# Altium schematic symbol library Schlib.SchLib: 18 symbols
Pins are listed as number, name and electrical type; pins without a type are passive.

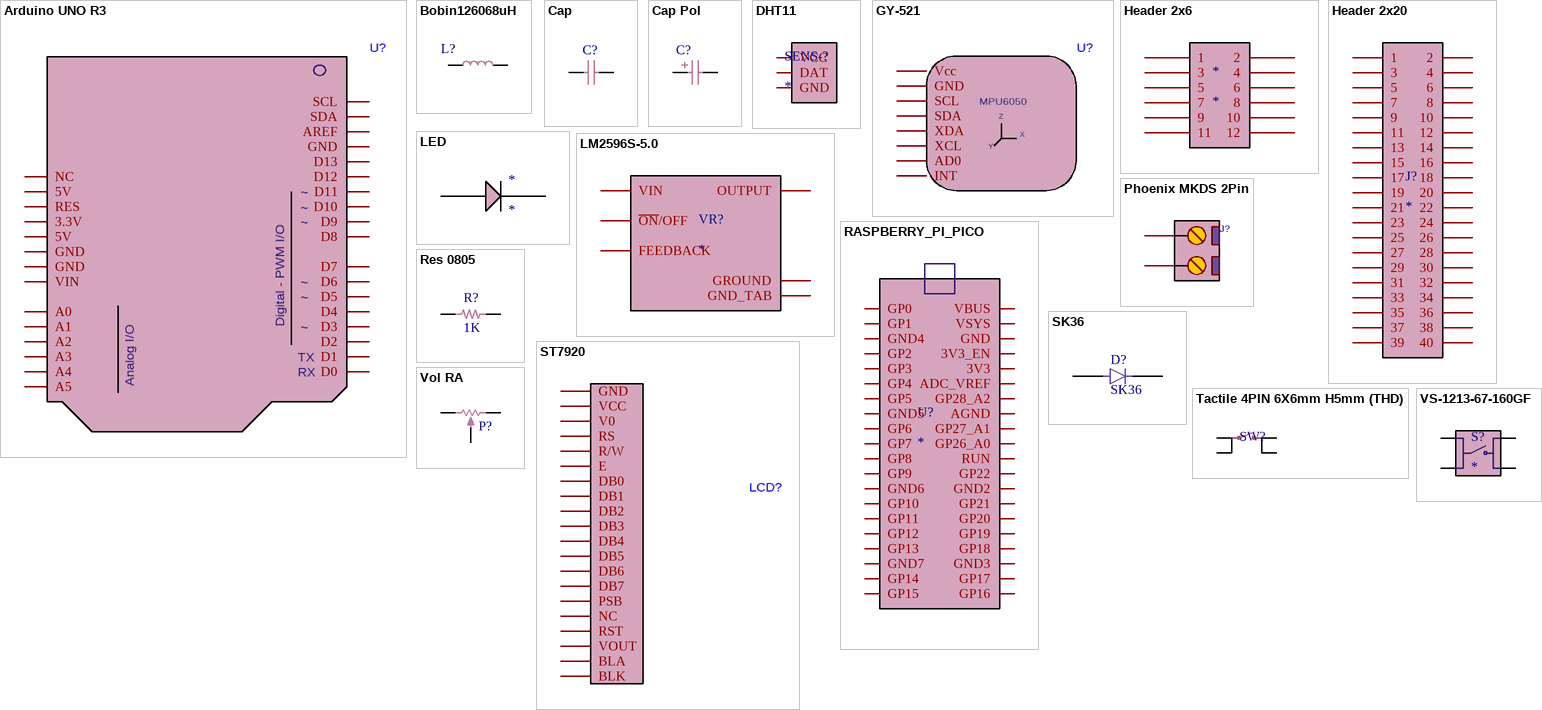
[diagram p0: symbols Arduino UNO R3 to VS-1213-67-160GF]

## Arduino UNO R3
designator U?
footprint ARDUINO UNO R3 FOOTPRINT
pins: 1 NC, 2 5V, 3 RES, 4 3.3V, 5 5V, 6 GND, 7 GND, 8 VIN, 9 A0, 10 A1, 11 A2, 12 A3, 13 A4, 14 A5, 15 SCL, 16 SDA, 17 AREF, 18 GND, 19 D13, 20 D12, 21 D11, 22 D10, 23 D9, 24 D8, 25 D7, 26 D6, 27 D5, 28 D4, 29 D3, 30 D2, 31 D1, 32 D0
text: ~; Digital - PWM I/O; TX; RX; Analog I/O

## Bobin126068uH
designator L?
SMT Inductor
footprint WURTH WE-PD 1260 (SMT Shielded Power Inductor, 2-leads, body 12x12mm)
pins: 1, 2

## Cap
designator C?
Capacitor; Published: 8-Jun-2000; LatestRevisionDate: 17-Jul-2002; LatestRevisionNote: Re-released for DXP Platform.; PackageReference: RAD-0.3; Publisher: Altium Limited; PackageDescription: Radial Cap, Thru-Hole; 2 Leads; 0.3 in Pin Spacing
footprint CAP FILM 1206 (H1, Film Capacitor PPS, 2-Leads, Body 3.20x1.60mm, IPC Medium Density)
pins: 1, 2

## Cap Pol
designator C?
Polarized Capacitor (Surface Mount); Published: 8-Jun-2000; LatestRevisionDate: 29-May-2009; LatestRevisionNote: IPC-7351 Footprint Added.; PackageReference: C0805; Publisher: Altium Limited; PackageDescription: Chip Capacitor
footprint CAP 470,220uF ALSMD ELEC 10MM H10.5MM (Aluminum SMD Electrolytic Capacitor, 10.00mm Land Size, 10.00mm Diameter, 10.50mm Height, 12.10mm Maximum Leads Span)
pins: 1, 2
1 alternate drawing of the same symbol

## DHT11
designator SENS-?
Humidity, Temperature Digital Â±5% RH Through Hole; MF: UNIVERSAL-SOLDER Electronics Ltd; MP: DHT11; SnapEDA_Link: https://www.snapeda.com/parts/DHT11/Ersa/view-part/?ref=snap; Package: None; Value: *; Check_prices: https://www.snapeda.com/parts/DHT11/Ersa/view-part/?ref=eda
footprint SENSOR-DHT11
pins: P$1 VCC, P$2 DAT, P$4 GND

## GY-521
designator U?
footprint GY-521
pins: 1 Vcc, 2 GND, 3 SCL, 4 SDA, 5 XDA, 6 XCL, 7 AD0, 8 INT
text: MPU6050; Z; X; Y

## Header 2x6
designator *
footprint HDRR_M_2X6 (Connector; Header; 6x2 Position)
pins: 1, 2, 3, 4, 5, 6, 7, 8, 9, 10, 11, 12

## Header 2x20
designator J?
footprint HDR_F_2X20 (Connector; Header; 20x2 Position)
pins: 1, 2, 3, 4, 5, 6, 7, 8, 9, 10, 11, 12, 13, 14, 15, 16, 17, 18, 19, 20, 21, 22, 23, 24, 25, 26, 27, 28, 29, 30, 31, 32, 33, 34, 35, 36, 37, 38, 39, 40

## LED
designator *
footprint LED 0805
pins: 1 +, 2 -

## LM2596S-5.0
designator VR?
SIMPLE SWITCHER&reg; 4.5V to 40V, 3A Low Component Count Step-Down Regulator; MP: LM2596S-5.0/NOPB; MF: Texas Instruments; Price: None; Availability: In Stock; Package: TO-263-5 Texas Instruments; SnapEDA_Link: https://www.snapeda.com/parts/LM2596S-5.0/NOPB/Texas+Instruments/view-part/?ref=snap; Check_prices: https://www.snapeda.com/parts/LM2596S-5.0/NOPB/Texas+Instruments/view-part/?ref=eda; Value: *; Purchase-URL: https://pricing.snapeda.com/search/part/LM2596S-5.0/NOPB/?ref=eda
footprint TO170P1524X483-6N
pins: 1 VIN, 2 OUTPUT, 3 GROUND, 4 FEEDBACK, 5 ~{ON}/OFF, 6 GND_TAB

## Phoenix MKDS 2Pin
designator J?
CONN, PHOENIX MKDS 5.08mm pitch; PartNumber: MKDS 1,5/ 2-5,08 - 1715721
footprint TE 282834-2
pins: 1, 2

## RASPBERRY_PI_PICO
designator U?
Raspberry Pi Board, Arm Cortex-M0+; Core Architecture:Arm; Core Sub-Architecture:Cortex-M0+; Kit Contents:Raspberry Pi Pico Board; No. Of Bits:32Bit; Silicon Core Number:Rp2040; Silicon Manufacturer:Raspberry Pi |Raspberry-Pi RASPBERRY PI PICO; SnapEDA_Link: https://www.snapeda.com/parts/RASPBERRY%20PI%20PICO/Raspberry+Pi/view-part/?ref=snap; Package: None; Value: *; MF: Raspberry Pi; MP: RASPBERRY PI PICO; Check_prices: https://www.snapeda.com/parts/RASPBERRY%20PI%20PICO/Raspberry+Pi/view-part/?ref=eda
footprint RASPBERRY_PI_PICO
pins: 3V3, 3V3_EN, ADC_VREF, AGND, GND, GND2, GND3, GND4, GND5, GND6, GND7, GP0, GP1, GP2, GP3, GP4, GP5, GP6, GP7, GP8, GP9, GP10, GP11, GP12, GP13, GP14, GP15, GP16, GP17, GP18, GP19, GP20, GP21, GP22, GP26_A0, GP27_A1, GP28_A2, RUN, VBUS, VSYS

## Res 0805
designator R?, comment 1K
SMT Resistor; VALUE: 1K
footprint RES 0805_2012 (Chip Resistor, 2-Leads, Body 2.00x1.25mm, IPC Medium Density)
pins: 1, 2

## SK36
designator D?
Diode Schottky 60V 3A Surface Mount DO-214AC (SMA); MF: Micro Commercial; MP: SK36; Package: DO-214 Diotec; Price: None; Availability: Bad; SnapEDA_Link: https://www.snapeda.com/parts/SK36/Micro%20Commercial/view-part/455175/?ref=snap; Value: *
footprint DIOSC6959X240
pins: A, C

## ST7920
designator LCD?
footprint LCD 128X64 CONTROLLER ST7920
pins: 1 GND, 2 VCC, 3 V0, 4 RS, 5 R/W, 6 E, 7 DB0, 8 DB1, 9 DB2, 10 DB3, 11 DB4, 12 DB5, 13 DB6, 14 DB7, 15 PSB, 16 NC, 17 RST, 18 VOUT, 19 BLA, 20 BLK

## Tactile 4PIN 6X6mm H5mm (THD)
designator SW?
Tactile Switch SPST-NO Top Actuated Surface Mount; PartNumber: PTS645SH50SMTR92 LFS
footprint SWPBT_SPDT_6X6X5TS (SWITCH, PUSHBUTTON, THD, SPDT, TS-1150)
pins: 1, 2, 3, 4

## Vol RA
designator P?, comment 10K  (value not drawn)
VALUE: 10K
footprint VOL RA (VOULME RIGHT ANGLE)
pins: 1 TOP, 2 TAP, 3 BOT

## VS-1213-67-160GF
designator S?
Flat Type PCB Mount 12 x 12mm Tact Switches; MP: VS-1213-67-160GF; Value: *; Availability: Unavailable; Package: None; Price: None
footprint SW_VS-1213-67-160GF
pins: 1, 2, 3, 4